# Altium schematic symbol library Battery Reader.SchLib: 98 symbols
Pins are listed as number, name and electrical type; pins without a type are passive.

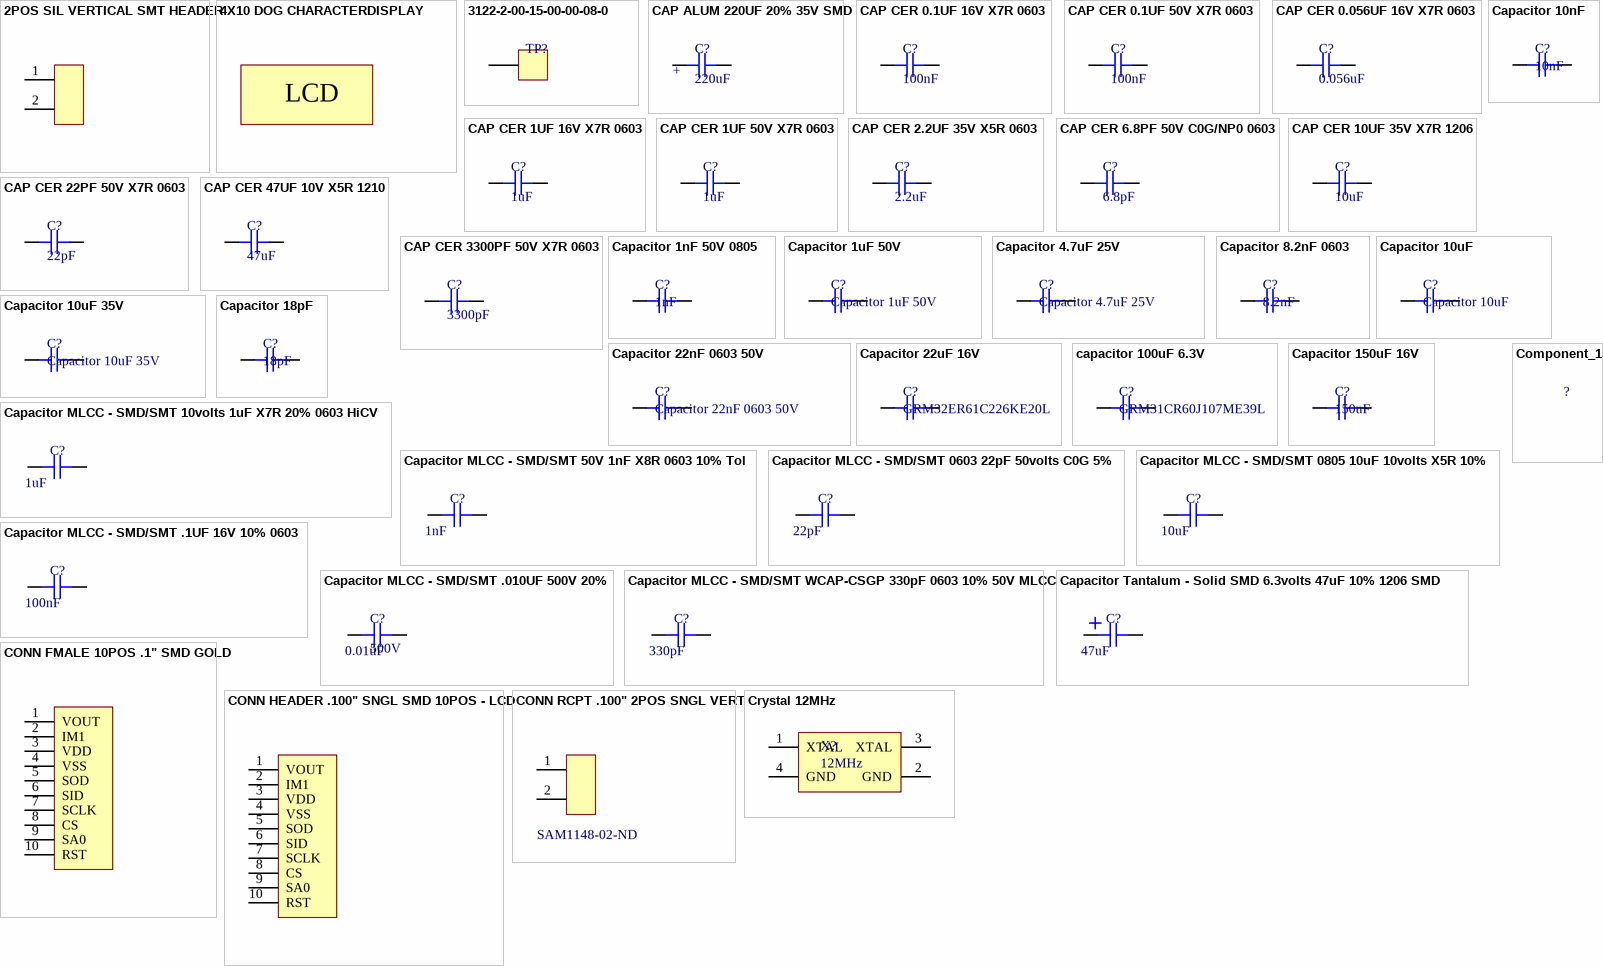
[diagram p0: symbols 2POS SIL VERTICAL SMT HEADER to Crystal 12MHz]

## 2POS SIL VERTICAL SMT HEADER
designator Conn?  Supplier Part Number 1: 952-1913-ND
2POS SIL VERTICAL SMT HEADER; Manufacturer 1: Harwin; Manufacturer Part Number 1: M20-8770246; Description 1: Headers & Wire Housings 02 SIL VERTICAL SMT HEADER TIN; Contact Resistance: 25mR; Max Current Rating: 3A; Number of Positions: 2; Gender: Male; Connector Type: Male Pin; Pitch: 2.54mm; Supplier 1: Digi-Key; Stock 1: 6945; Pricing 1: 1=0.24, 10=0.221, 100=0.1534, 500=0.1298, 1000=0.1062, 5000=0.0944, 10000=0.0856 (USD); Mount: Surface Mount; Case/Package: SIL; Colour: Black; Housing Colour: Black; Housing Material: Nylon; Contact Plating: Tin; Contact Material: Brass; Min Operating Temperature: -40°C; Max Operating Temperature: 105°C; Number of Rows: 1; Package Quantity: 1000; Packaging: Bag; Termination: Solder; Number of Contacts: 2; Orientation: Straight; Length: 5.08mm; Depth: 5.08mm; Contact Mating Length: 0.228inch; Radiation Hardening: No; ComponentLink1URL: https://datasheet.ciiva.com/26899/getdatasheetpartid-503801-26899393.pdf; ComponentLink1Description: https://datasheet.ciiva.com/26899/getdatasheetpartid-503801-26899393.pdf; ComponentLink2URL: https://datasheet.ciiva.com/5160/m20-877-349785-5160402.pdf; ComponentLink2Description: https://datasheet.ciiva.com/5160/m20-877-349785-5160402.pdf; ComponentLink3URL: https://datasheet.ciiva.com/16657/m20-877-16657350.pdf; ComponentLink3Description: https://datasheet.ciiva.com/16657/m20-877-16657350.pdf; ComponentLink4URL: https://datasheet.ciiva.com/6832/m20-877-6832845.pdf; ComponentLink4Description: https://datasheet.ciiva.com/6832/m20-877-6832845.pdf; ComponentLink5URL: https://datasheet.ciiva.com/10151/m20-877-10151407.pdf; ComponentLink5Description: https://datasheet.ciiva.com/10151/m20-877-10151407.pdf
pins: 1, 2

## 4X10 DOG CHARACTERDISPLAY
designator LCD?  Supplier Part Number 1: 790-EADOGS104W-A
4X10 DOG CHARACTERDISPLAY; Manufacturer 1: Electronic Assembly; Manufacturer Part Number 1: EADOGS104W-A; Supplier 1: Mouser; Stock 1: 0; Pricing 1: 1=16.68, 10=15.97, 50=12.42, 100=10.64, 1000=9.58, 10000=9.58 (USD); ComponentLink1URL: http://www.mouser.com/ds/2/127/dogs104e-553061.pdf; ComponentLink1Description: http://www.mouser.com/ds/2/127/dogs104e-553061.pdf
text: LCD

## 3122-2-00-15-00-00-08-0
designator TP?  (value not drawn)
CONN PC PIN CIRC 0.040DIA GOLD; MPN: 3122-2-00-15-00-00-08-0; Manufacturer: Mill-Max; Manufacturer Part Number: 3123-2-00-15-00-00-08-0; SPN: ED1277-ND; Plating: Nickel,Gold; Gender: Male; Insulation: Non-Insulated; Outside Diameter: 1.78mm; Flange Diameter: 0.07inch; Mounting Hole Diameter: 1.09mm; Board Thickness: 0.062inch; Hole Diameter: 0.043inch; Supplier: Digi-Key; Supplier 1: Digi-Key; Stock 1: 3576; Pricing 1: 1=0.34, 10=0.323, 25=0.2768, 50=0.2354, 100=0.2261, 250=0.2031, 500=0.1938, 1000=0.1615, 2500=0.1477 (USD); Mount: Through Hole; Contact Material: Brass; Material: Brass; Contact Plating: Gold; Package Quantity: 500; Packaging: Bulk; Termination: PC Pin; Length: 0.682inch; ComponentLink1URL: http://www.mouser.com/ds/2/273/221M-269451.pdf; ComponentLink1Description: http://www.mouser.com/ds/2/273/221M-269451.pdf; ComponentLink2URL: http://www.mill-max.com/assets/pdfs/metric/221M.pdf; ComponentLink2Description: http://www.mill-max.com/assets/pdfs/metric/221M.pdf; Supplier Part Number 1: ED1182-ND
footprint 3122-2-00-15-00-00-08-0 (Mill-Max 3122-2-00-15-00-00-08-0)
pins: 1

## CAP ALUM 220UF 20% 35V SMD
designator C?, comment 220uF
CAP ALUM 220UF 20% 35V SMD; MPN: UCW1V221MNL1GS; Manufacturer: Nichicon; SPN: 493-9430-1-ND; value: 220uF; Supplier: Digi-Key
footprint PCAP_8x10-ELECT
pins: 1, 2
1 alternate drawing of the same symbol
text: +

## CAP CER 0.1UF 16V X7R 0603
designator C?, comment 100nF
CAP CER 0.1UF 16V X7R 0603; MPN: CL10B104KO8NNNC; Manufacturer: Samsung Electro-Mechanics; value: 100nF; Supplier 1: Digi-Key; Supplier Part Number 1: 1276-1005-1-ND
footprint 0603 Capacitor (Chip Capacitor, Body 1.6x0.8mm, Height 0.55mm, IPC High Density)
pins: 1, 2

## CAP CER 0.1UF 50V X7R 0603
designator C?, comment 100nF
CAP CER 0.1UF 50V X7R 0603; MPN: CL10B104KB8NNNC; Manufacturer: Samsung Electro-Mechanics; value: 100nF; Supplier 1: Digi-Key; Supplier Part Number 1: 1276-1000-1-ND
footprint 0603 Capacitor (Chip Capacitor, Body 1.6x0.8mm, Height 0.55mm, IPC High Density)
pins: 1, 2

## CAP CER 0.056UF 16V X7R 0603
designator C?, comment 0.056uF
CAP CER 0.056UF 16V X7R 0603; MPN: CL10B563KO8NNNC; Manufacturer: Samsung Electro-Mechanics; value: 0.056uF; Supplier 1: Digi-Key; Supplier Part Number 1: 1276-2098-1-ND
footprint 0603 Capacitor (Chip Capacitor, Body 1.6x0.8mm, Height 0.55mm, IPC High Density)
pins: 1, 2

## CAP CER 1UF 16V X7R 0603
designator C?, comment 1uF
CAP CER 1UF 16V X7R 0603; MPN: CL10B105MO8NNWC; Manufacturer: Samsung Electro-Mechanics; value: 1uF; Supplier 1: Digi-Key; Supplier Part Number 1: 1276-6524-1-ND
footprint 0603 Capacitor (Chip Capacitor, Body 1.6x0.8mm, Height 0.55mm, IPC High Density)
pins: 1, 2

## CAP CER 1UF 50V X7R 0603
designator C?, comment 1uF
CAP CER 1UF 50V X7R 0603; MPN: UMK107AB7105KA-T; Manufacturer: Taiyo Yuden; value: 1uF; Supplier 1: Digi-Key; Supplier Part Number 1: 587-3247-1-ND
footprint 0603 Capacitor (Chip Capacitor, Body 1.6x0.8mm, Height 0.55mm, IPC High Density)
pins: 1, 2

## CAP CER 2.2UF 35V X5R 0603
designator C?, comment 2.2uF
CAP CER 2.2UF 35V X5R 0603; MPN: C1608X5R1V225M080AC; Manufacturer: TDK Corporation; value: 2.2uF; Supplier 1: Digi-Key; Supplier Part Number 1: 445-8026-1-ND
footprint 0603 Capacitor (Chip Capacitor, Body 1.6x0.8mm, Height 0.55mm, IPC High Density)
pins: 1, 2

## CAP CER 6.8PF 50V C0G/NP0 0603
designator C?, comment 6.8pF
CAP CER 6.8PF 50V C0G/NP0 0603; MPN: CL10C6R8BB8NNNC; Manufacturer: Samsung; value: 6.8pF; Supplier 1: Digi-Key; Supplier Part Number 1: 1276-2332-1-ND
footprint 0603 Capacitor (Chip Capacitor, Body 1.6x0.8mm, Height 0.55mm, IPC High Density)
pins: 1, 2

## CAP CER 10UF 35V X7R 1206
designator C?, comment 10uF
CAP CER 10UF 35V X7R 1206; MPN: GMK316AB7106KL-TR; Manufacturer: Taiyo Yuden; value: 10uF; Supplier 1: Digi-Key; Supplier Part Number 1: 587-3007-1-ND
footprint 1206 CAPACITOR
pins: 1, 2

## CAP CER 22PF 50V X7R 0603
designator C?, comment 22pF
CAP CER 22PF 50V X7R 0603; MPN: 06035C220JAT2A; Manufacturer: AVX Corporation; value: 22pF; Supplier 1: Digi-Key; Supplier Part Number 1: 478-6204-1-ND
footprint 0603 Capacitor (Chip Capacitor, Body 1.6x0.8mm, Height 0.55mm, IPC High Density)
pins: 1, 2

## CAP CER 47UF 10V X5R 1210
designator C?, comment 47uF
CAP CER 47UF 10V X5R 1210; MPN: GRM32ER61A476KE20L; Manufacturer: Murata; SPN: 490-3887-1-ND; value: 47uF; Supplier: Digi-Key
footprint 1210_Chip2PinSM127P600-8N
pins: 1, 2

## CAP CER 3300PF 50V X7R 0603
designator C?, comment 3300pF
CAP CER 3300PF 50V X7R 0603; MPN: CL10B332KB8NNNC; Manufacturer: Samsung; SPN: 1276-1758-1-ND; value: 3300pF; Supplier: Digi-Key
footprint 0603 Capacitor (Chip Capacitor, Body 1.6x0.8mm, Height 0.55mm, IPC High Density)
pins: 1, 2

## Capacitor 1nF 50V 0805
designator C?, comment 1nF
Multilayer Ceramic Capacitors MLCC - SMD/SMT 0805 1000pF 50volts X7R 10%; MPN: GRM216R71H102KA01D; Manufacturer: Murata Electronics; SPN: 81-GRM40X102K50D; Supplier: Mouser
pins: 1, 2

## Capacitor 1uF 50V
designator C?
Multilayer Ceramic Capacitors MLCC - SMD/SMT 1206 1.0uF 50V X7R 20%; Manufacturer: TDK; MPN: C3216X7R1H105M160AB; SPN: 810-C3216X7R1H105M; Supplier: Mouser
pins: 1, 2

## Capacitor 4.7uF 25V
designator C?
Multilayer Ceramic Capacitors MLCC - SMD/SMT 4.7uF 25Volts 10%; Manufacturer: Murata Electronics; MPN: GRM21BR61E475KA12K; SPN: 81-GRM21BR61E475KA2K; Supplier: Mouser
pins: 1, 2

## Capacitor 8.2nF 0603
designator C?, comment 8.2nF
Multilayer Ceramic Capacitors MLCC - SMD/SMT 0603 8200pF 50volts X7R 10%; MPN: GRM188R71H822KA01D; Manufacturer: Murata Electronics; SPN: 81-GRM39X822K50D; Supplier: Mouser
pins: 1, 2

## Capacitor 10nF
designator C?, comment 10nF
Multilayer CeramicCapacitors MLCC - SMD/SMT 100volts .01uF 10% X7R AUTO ESD; MPN: C0603C103K1RECAUTO; Manufacturer: Kemet; SPN: 80-C0603C103K1REAUTO; Supplier: Mouser
pins: 1, 2

## Capacitor 10uF
designator C?
Multilayer Ceramic Capacitors MLCC - SMD/SMT 0603 10uF 10volts *Derate Voltage/Temp; Manufacturer: Murata Electronics; MPN: GRM188R61A106KE69J; SPN: 81-GRM188R61A106KE9J; Supplier: Mouser
footprint 0603 Capacitor (Chip Capacitor, Body 1.6x0.8mm, Height 0.55mm, IPC High Density)
pins: 1, 2

## Capacitor 10uF 35V
designator C?
Multilayer Ceramic Capacitors MLCC - SMD/SMT 10uF 35V X7R +/-10% 1206 Gen Purp; Manufacturer: Taiyo Yuden; MPN: GMK316AB7106KL-TR; SPN: 963-GMK316AB7106KL; Supplier: Mouser
pins: 1, 2

## Capacitor 18pF
designator C?, comment 18pF
Multilayer Ceramic Capacitors MLCC - SMD/SMT 0603 18pF 50volts C0G 5%; Manufacturer: Vishay / Vitramon; MPN: VJ0603A180JXACW1BC; SPN: 77-VJ0603A180JXACBC; Supplier: Mouser
pins: 1, 2

## Capacitor 22nF 0603 50V
designator C?
Multilayer Ceramic Capacitors MLCC - SMD/SMT WCAP-CSGP 22000pF 0603 10% 50V MLCC; Manufacturer: Wurth Electronics; MPN: 885012206091; SPN: 710-885012206091; Supplier: Mouser
pins: 1, 2

## Capacitor 22uF 16V
designator C?, comment GRM32ER61C226KE20L
Multilayer Ceramic Capacitors MLCC - SMD/SMT 1210 22uF 16volts X5R 10%; Manufacturer: Murata Electronics; SPN: 81-GRM32ER61C226KE20; MPN: GRM32ER61C226KE20L; Supplier: Mouser
pins: 1, 2

## capacitor 100uF 6.3V
designator C?, comment GRM31CR60J107ME39L
Multilayer Ceramic Capacitors MLCC - SMD/SMT 100uF 6.3Volts 20%; Manufacturer: Murata Electronics; SPN: 81-GRM31CR60J107ME9L; MPN: GRM31CR60J107ME39L; Supplier: Mouser
pins: 1, 2

## Capacitor 150uF 16V
designator C?, comment 150uF
Aluminium Electrolytic Capacitors - SMD 16volts 150uF 20%; MPN: UWT1C151MCL1GS; Manufacturer: Nichicon; SPN: 647-UWT1C151MCL1GS; Supplier: Mouser
pins: 1, 2

## Capacitor MLCC - SMD/SMT 10volts 1uF X7R 20% 0603 HiCV
designator C?  value 1uF
Capacitor MLCC - SMD/SMT 10volts 1uF X7R 20% 0603 HiCV; Manufacturer: Taiyo Yuden; MPN: LMK107B7105MAHT; SPN: 963-LMK107B7105MAHT; Supplier: Mouser
footprint 0603 Capacitor (Chip Capacitor, Body 1.6x0.8mm, Height 0.55mm, IPC High Density)
pins: 1, 2

## Capacitor MLCC - SMD/SMT 50V 1nF X8R 0603 10% Tol
designator C?  value 1nF
Capacitor MLCC - SMD/SMT 50V 1nF X8R 0603 10% Tol; Manufacturer: AVX; MPN: 06035F102K4Z4A; SPN: 581-06035F102K4Z4A; Supplier: Mouser
footprint 0603 Capacitor (Chip Capacitor, Body 1.6x0.8mm, Height 0.55mm, IPC High Density)
pins: 1, 2

## Capacitor MLCC - SMD/SMT 0603 22pF 50volts C0G 5%
designator C?, comment value 22pF  (hidden comment: 50V)
Capacitor MLCC - SMD/SMT 0603 22pF 50volts C0G 5%; Manufacturer: Vishay / Vitramon; MPN: VJ0603A220JXACW1BC; SPN: 77-VJ0603A220JXACBC; Supplier: Mouser
footprint 0603 Capacitor (Chip Capacitor, Body 1.6x0.8mm, Height 0.55mm, IPC High Density)
pins: 1, 2

## Capacitor MLCC - SMD/SMT 0805 10uF 10volts X5R 10%
designator C?  value 10uF
Capacitor MLCC - SMD/SMT 0805 10uF 10volts X5R 10%; Manufacturer: Murata Electronics; MPN: GRM21BR61A106KE19L; SPN: 81-GRM21BR61A106KE19; Supplier: Mouser
footprint 0805 Capacitor (Chip Inductor, 2-Leads, Body 2,10x1,25mm, IPC Medium Density)
pins: 1, 2

## Capacitor MLCC - SMD/SMT .1UF 16V 10% 0603
designator C?, comment value 100nF  (hidden comment: ?nF)
Capacitor MLCC - SMD/SMT .1UF 16V 10% 0603; Manufacturer: Yageo; MPN: CC0603KPX7R7BB104; SPN: 603-C0603KPX7R7BB104; Supplier: Mouser
footprint 0603 Capacitor (Chip Capacitor, Body 1.6x0.8mm, Height 0.55mm, IPC High Density)
pins: 1, 2

## Capacitor MLCC - SMD/SMT .010UF 500V 20%
designator C?, comment 500V  value 0.01uF
Capacitor MLCC - SMD/SMT .010UF 500V 20%; MPN: VJ1206Y103MXEAT; SPN: 77-VJ1206Y103MXEAT; Supplier: Mouser; Manufacturer: 77-VJ1206Y103MXEAT
footprint 1206
pins: 1, 2

## Capacitor MLCC - SMD/SMT WCAP-CSGP 330pF 0603 10% 50V MLCC
designator C?  value 330pF
Capacitor MLCC - SMD/SMT WCAP-CSGP 330pF 0603 10% 50V MLCC; Manufacturer: Wurth Electronics; MPN: 885012206080; SPN: 710-885012206080; Supplier: Mouser
footprint 0603 Capacitor (Chip Capacitor, Body 1.6x0.8mm, Height 0.55mm, IPC High Density)
pins: 1, 2

## Capacitor Tantalum - Solid SMD 6.3volts 47uF 10% 1206 SMD
designator C?  value 47uF
Capacitor Tantalum - Solid SMD 6.3volts 47uF 10% 1206 SMD; Manufacturer: AVX; MPN: TAJA476K006SNJV; SPN: 581-TAJA476K006SNJV; Supplier: Mouser
footprint 1206 - TANTALUM (1206)
pins: 1, 2

## Component_1
designator ?

## CONN FMALE 10POS .1" SMD GOLD
designator Conn?  Supplier Part Number 1: S5641-ND
CONN FMALE 10POS .1" SMD GOLD; Manufacturer 1: Sullins; Manufacturer Part Number 1: NPPC101KFXC-RC; Number of Positions: 10; Connector Type: Socket,Header; Pitch: 0.1inch; Supplier 1: Digi-Key; Description 1: CONN FMALE 10POS .1" SMD GOLD; Stock 1: 1156; Pricing 1: 1=1.32, 10=1.195, 100=1.0244, 500=0.8537, 1000=0.7317, 5000=0.7046 (USD); Mount: Surface Mount; Colour: Black; Contact Plating: Gold; Contact Material: Bronze; Housing Colour: Black; Housing Material: Nylon; Package Quantity: 1; Number of Rows: 1; Packaging: Bulk; Termination: Solder; Length: 25.4mm; Height: 7.1mm; Width: 2.5mm; Lead Free: Lead Free; ComponentLink1URL: https://datasheet.ciiva.com/745/npxcxx1kfxx-rc10487-d-745368.pdf; ComponentLink1Description: https://datasheet.ciiva.com/745/npxcxx1kfxx-rc10487-d-745368.pdf
footprint CONN FMALE 10POS .1" SMD GOLD
pins: 1 VOUT, 2 IM1, 3 VDD, 4 VSS, 5 SOD, 6 SID, 7 SCLK, 8 CS, 9 SA0, 10 RST

## CONN HEADER .100" SNGL SMD 10POS - LCD
designator Conn?  Supplier Part Number 1: SAM12267-ND
.025 SQ. TERMINAL STRIPS; Manufacturer 1: Samtec; Manufacturer Part Number 1: TSM-110-01-T-SV; Max Current Rating: 7A; Number of Contacts: 10; Max Voltage Rating (AC): 475V; Gender: Male; Pitch: 2.54mm; Supplier 1: Digi-Key; Stock 1: 742; Pricing 1: 1=0.88, 10=0.775, 100=0.6688, 500=0.5472, 1000=0.4864, 5000=0.4256, 10000=0.4043 (USD); Contact Plating: Nickel,Tin; Contact Material: Bronze; Housing Colour: Black; Housing Material: Polymer; Min Operating Temperature: -55°C; Max Operating Temperature: 105°C; Number of Rows: 1; Packaging: Bulk; Termination: Solder; Orientation: Straight; Length: 25.4mm; Depth: 2.54mm; Radiation Hardening: No; REACH SVHC: No SVHC; Lead Free: Lead Free; ComponentLink1URL: http://components.arrow.com/part/dataview/0323_01324833; ComponentLink1Description: http://components.arrow.com/part/dataview/0323_01324833; ComponentLink2URL: http://www.farnell.com/datasheets/1927672.pdf; ComponentLink2Description: http://www.farnell.com/datasheets/1927672.pdf; ComponentLink3URL: http://www.samtec.com/documents/webfiles/pdf/TSM.PDF; ComponentLink3Description: http://www.samtec.com/documents/webfiles/pdf/TSM.PDF
pins: 1 VOUT, 2 IM1, 3 VDD, 4 VSS, 5 SOD, 6 SID, 7 SCLK, 8 CS, 9 SA0, 10 RST

## CONN RCPT .100" 2POS SNGL VERT
designator Conn?  Supplier Part Number 1: SAM1148-02-ND
CONN RCPT .100" 2POS SNGL VERT; Manufacturer 1: Samtec; Manufacturer Part Number 1: SSM-102-L-SV; Description 1: SAMTEC         SSM-102-L-SV             Board-To-Board Connector, Vertical, SSM Series, 2 Contacts, Receptacle, 2.54 mm, Surface Mount; Max Current Rating: 6.9A; Connector Type: Receptacle,Socket; Number of Positions: 2; Max Voltage Rating (AC): 475V; Gender: Receptacle; Contact Resistance: 10mR; Pitch: 2.54mm; Supplier 1: Digi-Key; Stock 1: 339; Pricing 1: 1=2.18, 10=1.953, 100=1.6081, 500=1.2711, 1000=1.0912, 5000=0.9955, 10000=0.9572 (USD); Mount: Surface Mount; Contact Material: Bronze; Colour: Black; Contact Plating: Nickel,Gold; Housing Colour: Black; Housing Material: Polymer; Min Operating Temperature: -55°C; Max Operating Temperature: 125°C; Number of Rows: 1; Packaging: Bulk; Termination: Solder; Number of Contacts: 2; Orientation: Straight; Current Rating: 6.9A; Voltage Rating: 475V; Voltage Rating (AC): 475V; Length: 5.08mm; Depth: 2.54mm; Lead Pitch: 2.54mm; Radiation Hardening: No; Lead Free: Lead Free; REACH SVHC: No SVHC; ComponentLink1URL: https://datasheet.ciiva.com/25617/0900766b811594ab-25617394.pdf; ComponentLink1Description: https://datasheet.ciiva.com/25617/0900766b811594ab-25617394.pdf; ComponentLink2URL: https://datasheet.ciiva.com/746/ssm-1xx-xxx-xx-xx-xx-x-xx-xx-mkt-746741.pdf; ComponentLink2Description: https://datasheet.ciiva.com/746/ssm-1xx-xxx-xx-xx-xx-x-xx-xx-mkt-746741.pdf; ComponentLink3URL: https://datasheet.ciiva.com/22677/81944-22677814.pdf; ComponentLink3Description: https://datasheet.ciiva.com/22677/81944-22677814.pdf
footprint CON2_1X2_DU_SSM
pins: 1, 2

## Crystal 12MHz
designator X?, comment 12MHz
Crystal 12MHz; Manufacturer: Pericom; MPN: FH1200001; SPN: 729-FH1200001; Supplier: Mouser
footprint FH1200001 12MHz
pins: 1 XTAL, 2 GND, 3 XTAL, 4 GND

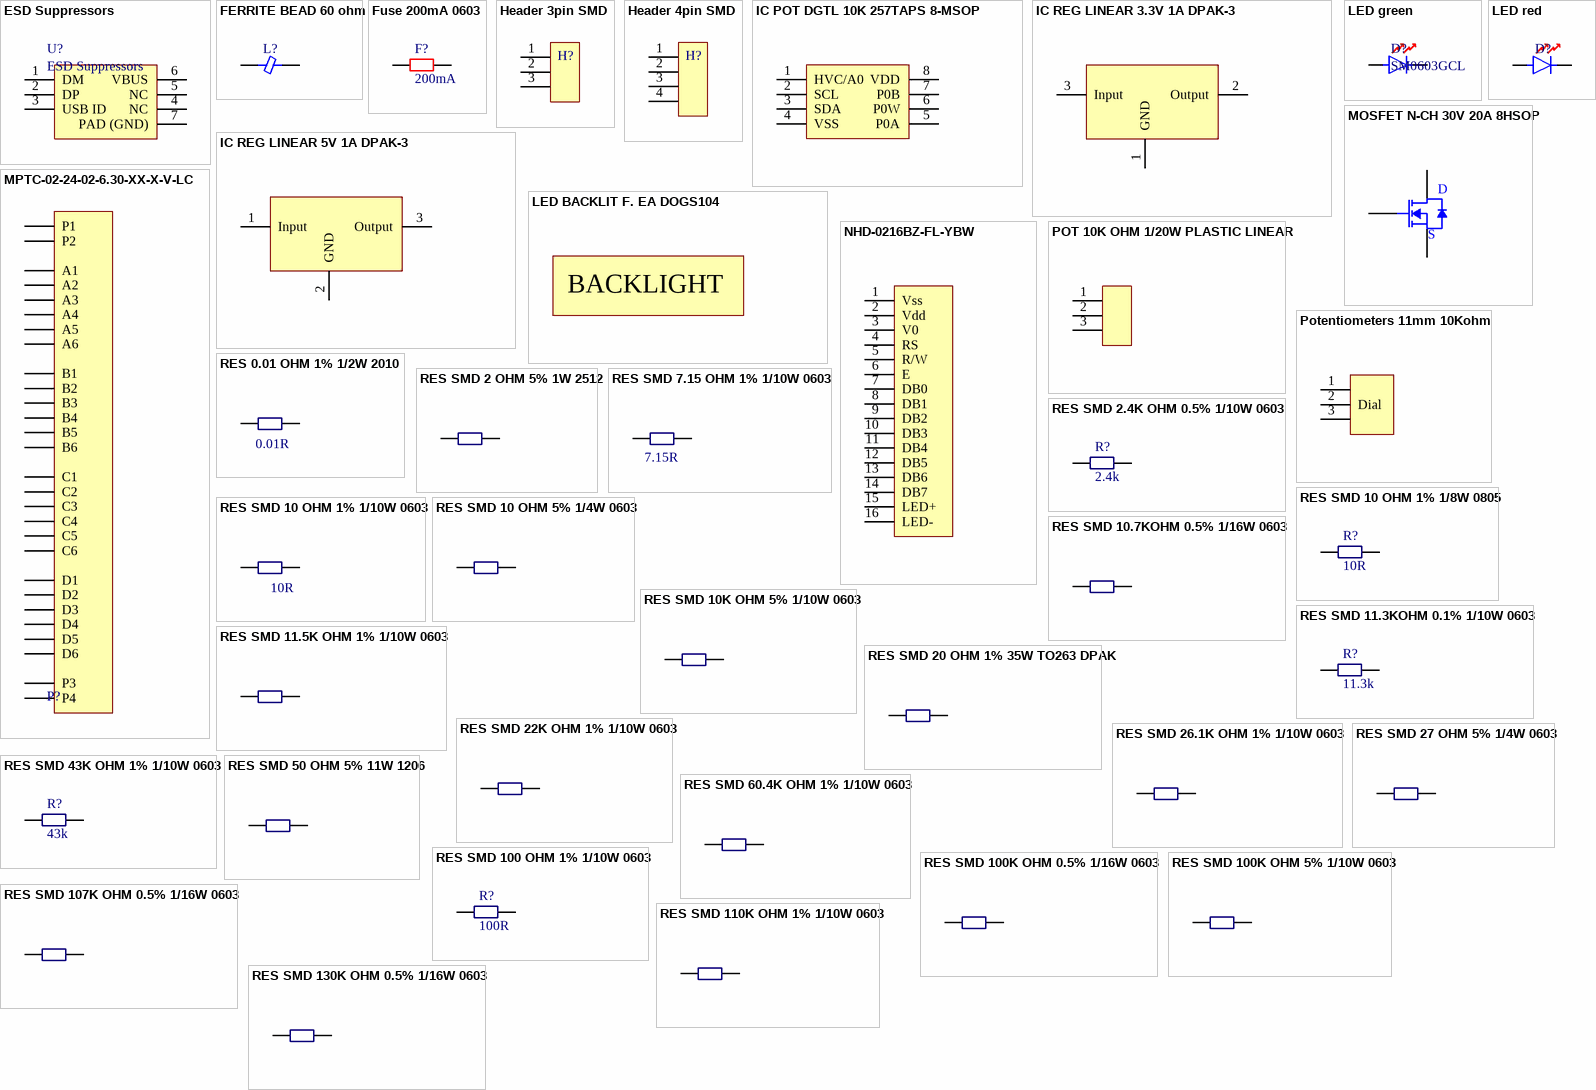
[diagram p1: symbols ESD Suppressors to RES SMD 130K OHM 0.5% 1/16W 0603]

## ESD Suppressors
designator U?
ESD Suppressors RCLAMP0854P 4LINES 8V SLP; Manufacturer: Semtech; MPN: RCLAMP0854P.TCT; SPN: 947-RCLAMP0854P.TCT; Supplier: Mouser
footprint RCLAMP0854P.TCT - SON50P160X65_HS-7N (RCLAMP0854P.TCT - SON, 6-Leads, Body 1,60x1,60mm, Pitch 0,50mm, Thermal Pad 1,18x0,28mm, IPC Medium Density)
pins: 1 DM, 2 DP, 3 USB ID, 4 NC, 5 NC, 6 VBUS, 7 PAD (GND)

## FERRITE BEAD 60 ohm
designator L?, comment 60 OHM  (value not drawn)
FERRITE BEAD 60 OHM 0805 1LN; Manufacturer: Taiyo Yuden; MPN: BKP2125HS600-T; SPN: 587-1932-1-ND; Supplier: Digikey
footprint 0805 Chip Inductor (Chip Inductor, 2-Leads, Body 2,10x1,25mm, IPC Medium Density)
pins: 1 L1, 2 L2

## Fuse 200mA 0603
designator F?, comment 200mA
MPN: F0603G0R20FNTR; Manufacturer: AVX Corporation; SPN: 478-6874-1-ND; Supplier: Digi-Key
footprint 0603 Resistor (Chip Resistor, Body 1.6x0.8mm, IPC High Density)
pins: 1, 2

## Header 3pin SMD
designator H?
3 Positions Header, Breakaway Connector 0.100" (2.54mm) Surface Mount Tin; Manufacturer: Molex, LLC; MPN: 0878980306; SPN: WM9810-ND; Supplier: Digikey
footprint Header 3pos 100 mil SMD
pins: 1, 2, 3

## Header 4pin SMD
designator H?
CONN HEADER 4POS VERT 2.54MM SMD; Manufacturer: Molex, LLC; MPN: 0878980426; SPN: WM8617-ND; Supplier: Digikey
footprint Header 4pos 100 mil SMD
pins: 1, 2, 3, 4

## IC POT DGTL 10K 257TAPS 8-MSOP
designator U?  Supplier Part Number 1: MCP4551-103E/MS-ND
IC POT DGTL 10K 257TAPS 8-MSOP; Manufacturer 1: Microchip; Manufacturer Part Number 1: MCP4551-103E/MS; Description 1: MICROCHIP         MCP4551-103E/MS            Volatile Digital Potentiometer, 10 kohm, Single, I2C, Serial, Linear,  20%, 2.7 V; Tolerance: 20%; Min Supply Voltage: 1.8V; Max Supply Voltage: 5.5V; Interface: I2C,Serial,2-Wire; Resistance: 10kR; Nominal Supply Current: 2.5uA; Number of Circuits: 1; Number of Taps: 257; Memory Type: Volatile; Number of Positions: 256; Temperature Coefficient: 50ppm/°C; Supplier 1: Digi-Key; Stock 1: 1005; Pricing 1: 1=0.93, 25=0.7724, 100=0.7004 (USD); Mount: Surface Mount; Case/Package: MSOP; Number of Pins: 8; Min Operating Temperature: -40°C; Max Operating Temperature: 125°C; Packaging: Rail/Tube; Package Quantity: 100; Taper: Linear; Number of Elements: 1; Length: 3mm; Height: 0.85mm; Width: 3mm; Radiation Hardening: No; REACH SVHC: No SVHC; Lead Free: Lead Free; ComponentLink1URL: https://datasheet.ciiva.com/1146/1789212-1146389.pdf; ComponentLink1Description: https://datasheet.ciiva.com/1146/1789212-1146389.pdf; ComponentLink2URL: https://datasheet.ciiva.com/1146/1789212-1146390.pdf; ComponentLink2Description: https://datasheet.ciiva.com/1146/1789212-1146390.pdf; ComponentLink3URL: https://datasheet.ciiva.com/16365/filehandler-aspxddocname-en538674-16365334.pdf; ComponentLink3Description: https://datasheet.ciiva.com/16365/filehandler-aspxddocname-en538674-16365334.pdf; ComponentLink4URL: https://datasheet.ciiva.com/3045/jp538674-3045879.pdf; ComponentLink4Description: https://datasheet.ciiva.com/3045/jp538674-3045879.pdf; ComponentLink5URL: https://datasheet.ciiva.com/15145/getdatasheetpartid-571538-15145915.pdf; ComponentLink5Description: https://datasheet.ciiva.com/15145/getdatasheetpartid-571538-15145915.pdf; ComponentLink6URL: https://datasheet.ciiva.com/1329/ds-22096a-1329934.pdf; ComponentLink6Description: https://datasheet.ciiva.com/1329/ds-22096a-1329934.pdf; ComponentLink7URL: https://datasheet.ciiva.com/16594/jp538674-16594574.pdf; ComponentLink7Description: https://datasheet.ciiva.com/16594/jp538674-16594574.pdf
pins: 1 HVC/A0, 2 SCL, 3 SDA, 4 VSS, 5 P0A, 6 P0W, 7 P0B, 8 VDD

## IC REG LINEAR 3.3V 1A DPAK-3
designator U?, comment NCP1117DT33T5G
IC REG LINEAR 3.3V 1A DPAK-3; Manufacturer: ON Semiconductor; SPN: NCP1117DT33T5GOSCT-ND; Supplier: Digi-Key; MPN: NCP1117DT33T5G
pins: 1 GND, 2 Output, 3 Input
1 alternate drawing of the same symbol

## IC REG LINEAR 5V 1A DPAK-3
designator U?, comment MC7805BDTRKG
IC REG LINEAR 5V 1A DPAK-3; Manufacturer: ON Semiconductor; SPN: MC7805BDTRKGOSCT-ND; Supplier: Digi-Key; MPN: MC7805BDTRKG
pins: 1 Input, 2 GND, 3 Output

## LED BACKLIT F. EA DOGS104
designator ACC?  Supplier Part Number 1: 1481-1235-ND
LED BACKLIT F. EA DOGS104; Manufacturer 1: Electronic Assembly; Manufacturer Part Number 1: EALED36X28-ERW; Supplier 1: Digi-Key; Stock 1: 9; Pricing 1: 1=14.66, 10=14.04, 25=10.92, 100=9.36, 250=8.892, 500=8.424, 1000=7.956 (USD); ComponentLink1URL: http://www.mouser.com/ds/2/127/dogs104e-553061.pdf; ComponentLink1Description: http://www.mouser.com/ds/2/127/dogs104e-553061.pdf
text: BACKLIGHT

## LED green
designator D?, comment SM0603GCL
Standard LEDs - SMD Green 575 nm Water Clear; Manufacturer: Bivar; SPN: 749-SM0603GCL; Supplier: Mouser; MPN: SM0603GCL
pins: 1, 2

## LED red
designator D?
LED RED 0603 SMD; Manufacturer: Vishay Semiconductors; MPN: TLMS1000-GS08; SPN: TLMS1000-GS08CT-ND; Supplier: Digi-Key
pins: 1, 2

## MOSFET N-CH 30V 20A 8HSOP
designator Q?, comment RS1E200BNTB
MOSFET N-CH 30V 20A 8HSOP; Manufacturer: Rohm Semiconductor; SPN: RS1E200BNTBCT-ND; Supplier: Digi-Key; MPN: RS1E200BNTB
pins: 1 G, 2 S, 3 D

## MPTC-02-24-02-6.30-XX-X-V-LC
designator P?  (value not drawn)
Samtec PowerStrip 30A Signal/Power Combo Connector; MPN: MPTC-02-24-02-6.30-01-L-V; Manufacturer: Samtec
footprint MPTC-02-24-02-6.30-XX-X-V-LC (Samtec Power Strip 30A series MPTC)
pins: A1, A2, A3, A4, A5, A6, B1, B2, B3, B4, B5, B6, C1, C2, C3, C4, C5, C6, D1, D2, D3, D4, D5, D6, P1, P2, P3, P4

## NHD-0216BZ-FL-YBW
designator LCD?
LCD MOD CHAR 2X16 Y/G TRANSFL; Manufacturer: Newhaven Display Intl; SPN: NHD-0216BZ-FL-YBW-ND; Supplier: Digi-Key; MPN: NHD-0216BZ-FL-YBW
pins: 1 Vss, 2 Vdd, 3 V0, 4 RS, 5 R/W, 6 E, 7 DB0, 8 DB1, 9 DB2, 10 DB3, 11 DB4, 12 DB5, 13 DB6, 14 DB7, 15 LED+, 16 LED-

## POT 10K OHM 1/20W PLASTIC LINEAR
designator POT?, comment P120PK-Y25BR10K
POT 10K OHM 1/20W PLASTIC LINEAR; Manufacturer: TT Electronics/BI; SPN: 987-1710-ND; Supplier: Digi-Key; MPN: P120PK-Y25BR10K
pins: 1, 2, 3

## Potentiometers 11mm 10Kohm
designator POT?, comment PRS11S-N20F-103B1
Potentiometers 11mm 10Kohm; Manufacturer: Bourns; SPN: 652-PRS11SN20F103B1; Supplier: Mouser; MPN: PRS11S-N20F-103B1
pins: 1, 2 Dial, 3

## RES 0.01 OHM 1% 1/2W 2010
designator R?, comment WSL2010R0100FEA  value 0.01R
RES 0.01 OHM 1% 1/2W 2010; Manufacturer: Vishay Dale; Supplier Part Number 1: WSLE-.01CT-ND; MPN: WSL2010R0100FEA; Supplier 1: Digi-Key
footprint WSL2010R0100FEA
pins: 1, 2

## RES SMD 2 OHM 5% 1W 2512
designator R?, comment 2R
RES SMD 2 OHM 5% 1W 2512; Manufacturer: Stackpole Electronics Inc.; MPN: RMCF2512JT2R00; Supplier Part Number 1: RMCF2512JT2R00CT-ND; Supplier 1: Digi-Key; Value: 2R
pins: 1, 2

## RES SMD 2.4K OHM 0.5% 1/10W 0603
designator R?, comment 2.4k
RES SMD 2.4K OHM 0.5% 1/10W 0603; MPN: RT0603DRE072K4L; Manufacturer: Yageo; SPN: 311-2519-1-ND; Supplier: Digi-Key; value: 2.4k
footprint 0603 Resistor (Chip Resistor, Body 1.6x0.8mm, IPC High Density)
pins: 1, 2

## RES SMD 7.15 OHM 1% 1/10W 0603
designator R?  Resistance: 7.15R
RES SMD 7.15 OHM 1% 1/10W 0603; Manufacturer 1: Vishay Dale; Manufacturer Part Number 1: CRCW06037R15FKEA; Power Rating: 100mW; Voltage Rating: 75V; Temperature Coefficient: 100ppm/°C; Supplier 1: Digi-Key; Description 1: RES SMD 7.15 OHM 1% 1/10W 0603; Stock 1: 21491; Pricing 1: 1=0.1, 10=0.042, 100=0.017, 1000=0.0076, 2500=0.0066 (USD); Case/Package: 0603; Weight: 7.1E-05oz; Case Code (Metric): 1608; Case Code (Imperial): 0603; Contact Plating: Tin; Min Operating Temperature: -55°C; Max Operating Temperature: 155°C; Tolerance: 1%; Packaging: Tape and Reel; Package Quantity: 5000; Composition: Thick Film; Number of Terminations: 2; Military Standard: Not; Max Power Dissipation: 100mW; Length: 1.55mm; Height: 0.02inch; Width: 0.033inch; Depth: 0.85mm; Lead Free: Lead Free; ComponentLink1URL: https://datasheet.ciiva.com/2466/dcrcwe3-2466755.pdf; ComponentLink1Description: https://datasheet.ciiva.com/2466/dcrcwe3-2466755.pdf; ComponentLink2URL: https://datasheet.ciiva.com/2466/dcrcwe3-2466756.pdf; ComponentLink2Description: https://datasheet.ciiva.com/2466/dcrcwe3-2466756.pdf; ComponentLink3URL: https://datasheet.ciiva.com/2466/dcrcwe3-2466757.pdf; ComponentLink3Description: https://datasheet.ciiva.com/2466/dcrcwe3-2466757.pdf; ComponentLink4URL: https://datasheet.ciiva.com/5562/dcrcwe3-109170-5562726.pdf; ComponentLink4Description: https://datasheet.ciiva.com/5562/dcrcwe3-109170-5562726.pdf; Supplier Part Number 1: 541-7.15HHCT-ND
footprint 0603 Resistor (Chip Resistor, Body 1.6x0.8mm, IPC High Density)
pins: 1, 2

## RES SMD 10 OHM 1% 1/8W 0805
designator R?, comment 10R
RES SMD 10 OHM 1% 1/8W 0805; MPN: RC0805FR-0710RL; Manufacturer: Yageo; SPN: 311-10.0CRCT-ND; Supplier: Digi-Key; value: 10R
footprint RESC2012X06N (Chip Resistor, 2-Leads, Body 2.00x1.25mm, IPC Medium Density)
pins: 1, 2

## RES SMD 10 OHM 1% 1/10W 0603
designator R?  Resistance: 10R
RES SMD 10 OHM 1% 1/10W 0603; Manufacturer 1: Panasonic; Manufacturer Part Number 1: ERJ-3EKF10R0V; Description 1: Res Thick Film 0603 10 Ohm 1% 1/10W ±100ppm/C Molded SMD Punched Carrier T/R; Power Rating: 100mW; Voltage Rating: 75V; Temperature Coefficient: 100ppm/°C; Supplier 1: Digi-Key; Stock 1: 1761949; Pricing 1: 1=0.1, 10=0.063, 100=0.0257, 1000=0.0115, 2500=0.01 (USD); Mount: Surface Mount; Case/Package: 0603; Number of Pins: 2; Case Code (Imperial): 0603; Case Code (Metric): 1608; Contact Plating: Tin; Min Operating Temperature: -55°C; Max Operating Temperature: 155°C; Tolerance: 1%; Packaging: Tape and Reel; Package Quantity: 5000; Composition: Thick Film; Number of Terminations: 2; Termination: SMD/SMT; Military Standard: Not; Max Power Dissipation: 100mW; Voltage Rating (DC): 75V; Working Voltage: 75V; Length: 1.6mm; Height: 0.45mm; Width: 0.8mm; Depth: 0.8mm; Radiation Hardening: No; REACH SVHC: No SVHC; Lead Free: Lead Free; ComponentLink1URL: https://datasheet.ciiva.com/34301/921184-34301770.pdf; ComponentLink1Description: https://datasheet.ciiva.com/34301/921184-34301770.pdf; ComponentLink2URL: https://datasheet.ciiva.com/9194/aoa0000ce2-9194166.pdf; ComponentLink2Description: https://datasheet.ciiva.com/9194/aoa0000ce2-9194166.pdf; ComponentLink3URL: https://datasheet.ciiva.com/7802/426256-7802679.pdf; ComponentLink3Description: https://datasheet.ciiva.com/7802/426256-7802679.pdf; ComponentLink4URL: https://datasheet.ciiva.com/30170/aoa0000ce2-30170135.pdf; ComponentLink4Description: https://datasheet.ciiva.com/30170/aoa0000ce2-30170135.pdf; ComponentLink5URL: https://datasheet.ciiva.com/16199/aoa0000ce2-16199896.pdf; ComponentLink5Description: https://datasheet.ciiva.com/16199/aoa0000ce2-16199896.pdf; ComponentLink6URL: https://datasheet.ciiva.com/16724/70260748-16724989.pdf; ComponentLink6Description: https://datasheet.ciiva.com/16724/70260748-16724989.pdf; ComponentLink7URL: https://datasheet.ciiva.com/7802/aoa0000ce2-7802414.pdf; ComponentLink7Description: https://datasheet.ciiva.com/7802/aoa0000ce2-7802414.pdf; ComponentLink8URL: https://datasheet.ciiva.com/48530/aoa0000ce2-48530990.pdf; ComponentLink8Description: https://datasheet.ciiva.com/48530/aoa0000ce2-48530990.pdf; ComponentLink9URL: https://datasheet.ciiva.com/17211/aoa0000ce2-17211983.pdf; ComponentLink9Description: https://datasheet.ciiva.com/17211/aoa0000ce2-17211983.pdf; ComponentLink10URL: https://datasheet.ciiva.com/43467/1678782-43467583.pdf; ComponentLink10Description: https://datasheet.ciiva.com/43467/1678782-43467583.pdf; Supplier Part Number 1: P10.0HCT-ND
footprint 0603 Resistor (Chip Resistor, Body 1.6x0.8mm, IPC High Density)
pins: 1, 2

## RES SMD 10 OHM 5% 1/4W 0603
designator R?, comment 10R  Supplier Part Number 1: RHM10.0ADCT-ND
RES SMD 10 OHM 5% 1/4W 0603; Manufacturer: Rohm Semiconductor; MPN: ESR03EZPF10R0; Manufacturer 1: Rohm; Description 1: RES 10 OHM 1/4W 1% 0603 SMD; Tolerance: 1%; Temperature Coefficient: 100ppm/°C; SPN: RHM10.0ADCT-ND; Supplier: DigiKey; Value: 10R; Supplier 1: Digi-Key; Manufacturer Part Number 1: ESR03EZPF10R0; Stock 1: 261792; Pricing 1: 1=0.14, 10=0.126, 100=0.0484, 1000=0.0213, 2500=0.0184 (USD); Case/Package: 0603; Min Operating Temperature: -55°C; Max Operating Temperature: 155°C; Resistance: 10R; Length: 1.6mm; Height: 0.45mm; Width: 0.8mm; Lead Free: Lead Free; ComponentLink1URL: http://www.rohm.com/web/global/datasheet/ESR01MZPF/esr-e; ComponentLink1Description: http://www.rohm.com/web/global/datasheet/ESR01MZPF/esr-e
footprint 0603 Resistor (Chip Resistor, Body 1.6x0.8mm, IPC High Density)
pins: 1, 2

## RES SMD 10.7KOHM 0.5% 1/16W 0603
designator R?, comment 10k7
RES SMD 10.7KOHM 0.5% 1/16W 0603; Manufacturer: Susumu; MPN: RR0816P-1072-D-04C; Supplier Part Number 1: RR08P10.7KDCT-ND; Supplier 1: Digi-Key; Value: 10k7
footprint 0603 Resistor (Chip Resistor, Body 1.6x0.8mm, IPC High Density)
pins: 1, 2

## RES SMD 10K OHM 5% 1/10W 0603
designator R?, comment 10k
RES SMD 10K OHM 5% 1/10W 0603; Manufacturer: Yageo; MPN: RC0603JR-0710KL; Supplier Part Number 1: 311-10KGRCT-ND; Supplier 1: Digi-Key; Value: 10k
footprint 0603 Resistor (Chip Resistor, Body 1.6x0.8mm, IPC High Density)
pins: 1, 2

## RES SMD 11.3KOHM 0.1% 1/10W 0603
designator R?, comment 11.3k
RES SMD 11.3KOHM 0.1% 1/10W 0603; MPN: RT0603BRD0711K3L; Manufacturer: Yageo; SPN: YAG4468CT-ND; Supplier: Digi-Key; Value: 11.3k
pins: 1, 2

## RES SMD 11.5K OHM 1% 1/10W 0603
designator R?, comment 11K5
RES SMD 11.5K OHM 1% 1/10W 0603; Manufacturer: Yageo; MPN: RR0816P-1072-D-04C; SPN: 311-11.5KHRCT-ND; Supplier: Digi-Key; Value: 11K5
footprint 0603 Resistor (Chip Resistor, Body 1.6x0.8mm, IPC High Density)
pins: 1, 2

## RES SMD 20 OHM 1% 35W TO263 DPAK
designator R?, comment 20R
RES SMD 20 OHM 1% 35W TO263 DPAK; MPN: PFS35-20RF1; Manufacturer: Riedon; SPN: 696-1282-1-ND; value: 20R; Supplier: Digi-Key; Supplier 1: Digi-Key; Supplier Part Number 1: PFS35-20FCT-ND
pins: 1, 2

## RES SMD 22K OHM 1% 1/10W 0603
designator R?, comment 22K
RES SMD 22K OHM 1% 1/10W 0603; Manufacturer: Yageo; MPN: RC0603FR-0722KL; SPN: 311-22.0KHRCT-ND; Supplier: Digi-Key; Value: 22K
footprint 0603 Resistor (Chip Resistor, Body 1.6x0.8mm, IPC High Density)
pins: 1, 2

## RES SMD 26.1K OHM 1% 1/10W 0603
designator R?, comment 26K1
RES SMD 26.1K OHM 1% 1/10W 0603; Manufacturer: Yageo; MPN: RC0603FR-0726K1L; SPN: 311-26.1KHRCT-ND; Supplier: Digi-Key; Value: 26K1
footprint 0603 Resistor (Chip Resistor, Body 1.6x0.8mm, IPC High Density)
pins: 1, 2

## RES SMD 27 OHM 5% 1/4W 0603
designator R?, comment ESR03EZPJ270  value 27
RES SMD 27 OHM 5% 1/4W 0603; Manufacturer 1: Rohm; Resistance: 27R; Max Power Dissipation: 250mW; Temperature Coefficient: 200ppm/°C; MPN: ESR03EZPJ270; Supplier 1: Digi-Key; Manufacturer Part Number 1: ESR03EZPJ270; Description 1: RES SMD 27 OHM 5% 1/4W 0603; Stock 1: 22229; Pricing 1: 1=0.1, 10=0.087, 100=0.0333, 1000=0.0146, 2500=0.0126 (USD); Case/Package: 0603; Case Code (Metric): 1608; Case Code (Imperial): 0603; Min Operating Temperature: -55°C; Max Operating Temperature: 155°C; Package Quantity: 5000; Packaging: Cut Tape; Tolerance: 5%; Composition: Thick Film; Number of Terminations: 2; Length: 0.063inch; Height: 0.022inch; Width: 0.031inch; ComponentLink1URL: https://datasheet.ciiva.com/14932/esr-14932374.pdf; ComponentLink1Description: https://datasheet.ciiva.com/14932/esr-14932374.pdf; ComponentLink2URL: https://datasheet.ciiva.com/14928/esr-14928807.pdf; ComponentLink2Description: https://datasheet.ciiva.com/14928/esr-14928807.pdf; Supplier Part Number 1: RHM27DCT-ND
footprint 0603 Resistor (Chip Resistor, Body 1.6x0.8mm, IPC High Density)
pins: 1, 2

## RES SMD 43K OHM 1% 1/10W 0603
designator R?, comment 43k
RES SMD 43K OHM 1% 1/10W 0603; MPN: RC0603FR-0743KL; Manufacturer: Yageo; SPN: 311-43.0KHRCT-ND; Supplier: Digi-Key
footprint 0603 Resistor (Chip Resistor, Body 1.6x0.8mm, IPC High Density)
pins: 1, 2

## RES SMD 50 OHM 5% 11W 1206
designator R?, comment RCP1206W50R0JTP
RES SMD 50 OHM 5% 11W 1206; Manufacturer: Vishay; value: 50; SPN: 541-2477-1-ND; Supplier: Digi-Key; MPN: RCP1206W50R0JTP
pins: 1, 2

## RES SMD 60.4K OHM 1% 1/10W 0603
designator R?, comment 60K4
RES SMD 60.4K OHM 1% 1/10W 0603; Manufacturer: Yageo; MPN: RC0603FR-0760K4L; SPN: 311-60.4KHRCT-ND; Supplier: Digi-Key; Value: 60K4
footprint 0603 Resistor (Chip Resistor, Body 1.6x0.8mm, IPC High Density)
pins: 1, 2

## RES SMD 100 OHM 1% 1/10W 0603
designator R?, comment 100R
RES SMD 100 OHM 1% 1/10W 0603; MPN: RC0603FR-07100RL; Manufacturer: Yageo; SPN: 311-100HRCT-ND; Supplier: Digi-Key; value: 100R
footprint 0603 Resistor (Chip Resistor, Body 1.6x0.8mm, IPC High Density)
pins: 1, 2

## RES SMD 100K OHM 0.5% 1/16W 0603
designator R?, comment 100k
RES SMD 100K OHM 0.5% 1/16W 0603; Manufacturer: Susumu; MPN: RR0816P-104-D; Supplier Part Number 1: RR08P100KDCT-ND; Supplier 1: Digi-Key; Value: 100k
footprint 0603 Resistor (Chip Resistor, Body 1.6x0.8mm, IPC High Density)
pins: 1, 2

## RES SMD 100K OHM 5% 1/10W 0603
designator R?, comment 100k
RES SMD 100K OHM 5% 1/10W 0603; Manufacturer: Yageo; MPN: RC0603JR-07100KL; Supplier Part Number 1: 311-100KGRCT-ND; Supplier 1: Digi-Key; Value: 100k
footprint 0603 Resistor (Chip Resistor, Body 1.6x0.8mm, IPC High Density)
pins: 1, 2

## RES SMD 107K OHM 0.5% 1/16W 0603
designator R?, comment 107k
RES SMD 107K OHM 0.5% 1/16W 0603; Manufacturer: Susumu; MPN: RR0816P-1073-D-04D; Supplier Part Number 1: 408-1733-1-ND; Supplier 1: Digi-Key; Value: 107k
footprint 0603 Resistor (Chip Resistor, Body 1.6x0.8mm, IPC High Density)
pins: 1, 2

## RES SMD 110K OHM 1% 1/10W 0603
designator R?, comment 110k
RES SMD 110K OHM 1% 1/10W 0603; Manufacturer: Yageo; MPN: RC0603FR-07110KL; Supplier Part Number 1: 311-110KHRCT-ND; Supplier: Digi-Key; Value: 110k
footprint 0603 Resistor (Chip Resistor, Body 1.6x0.8mm, IPC High Density)
pins: 1, 2

## RES SMD 130K OHM 0.5% 1/16W 0603
designator R?, comment 130k
RES SMD 130K OHM 0.5% 1/16W 0603; Manufacturer: Susumu; MPN: RR0816P-134-D; Supplier Part Number 1: RR08P130KDCT-ND; Supplier 1: Digi-Key; Value: 130k
footprint 0603 Resistor (Chip Resistor, Body 1.6x0.8mm, IPC High Density)
pins: 1, 2

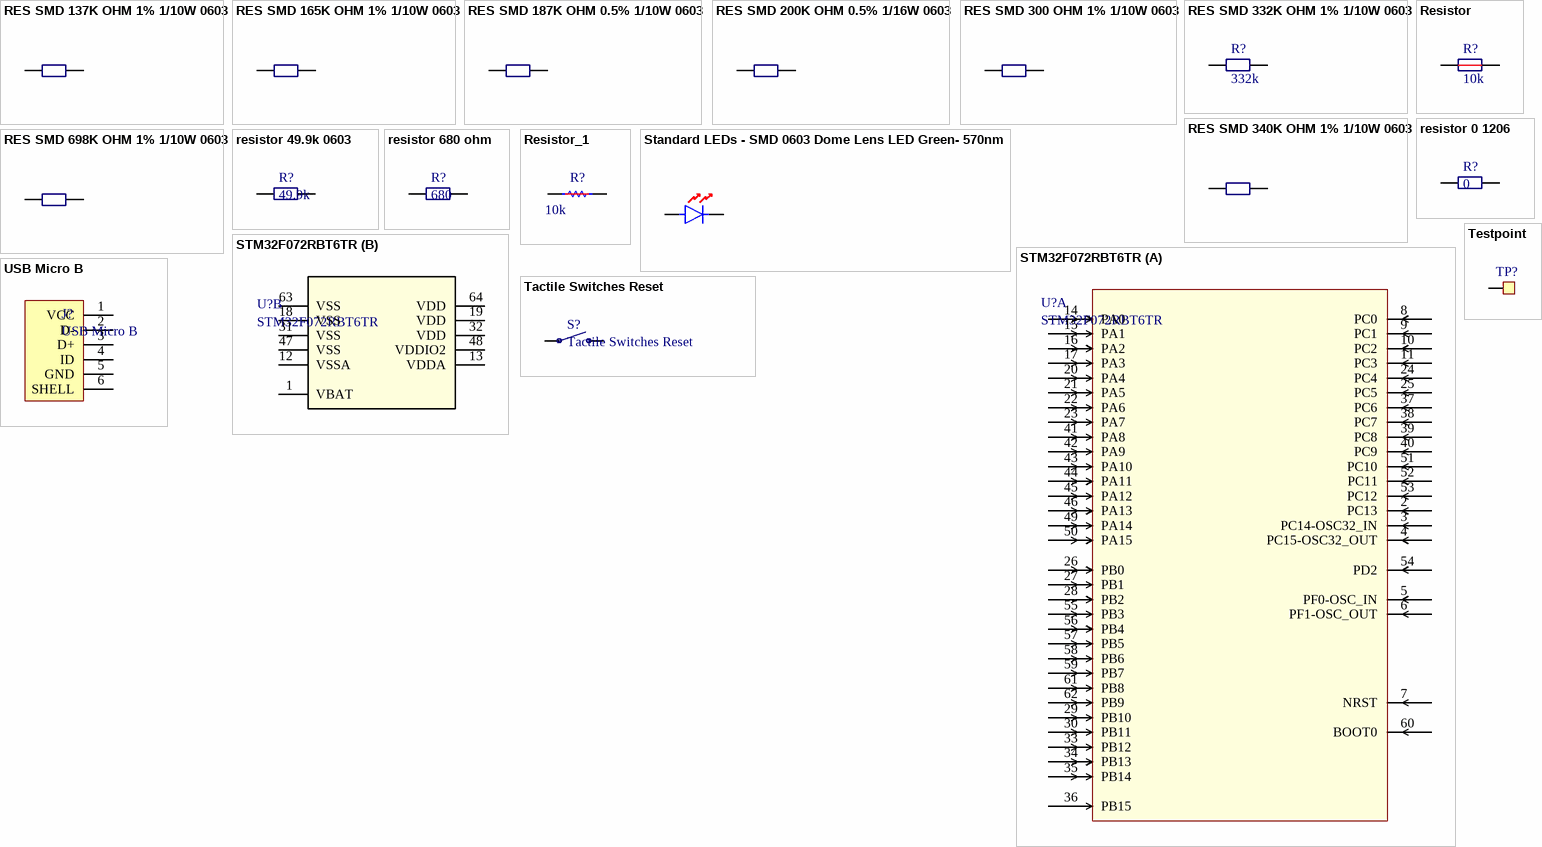
[diagram p2: symbols RES SMD 137K OHM 1% 1/10W 0603 to USB Micro B]

## RES SMD 137K OHM 1% 1/10W 0603
designator R?, comment 137k
RES SMD 137K OHM 1% 1/10W 0603; Manufacturer: Yageo; MPN: RC0603FR-07137KL; Supplier Part Number 1: 311-137KHRCT-ND; Supplier 1: Digi-Key; Value: 137k
footprint 0603 Resistor (Chip Resistor, Body 1.6x0.8mm, IPC High Density)
pins: 1, 2

## RES SMD 165K OHM 1% 1/10W 0603
designator R?, comment 165k
RES SMD 165K OHM 1% 1/10W 0603; Manufacturer: Yageo; MPN: RC0603FR-07165KL; Supplier Part Number 1: 311-165KHRCT-ND; Supplier 1: Digi-Key; Value: 165k
footprint 0603 Resistor (Chip Resistor, Body 1.6x0.8mm, IPC High Density)
pins: 1, 2

## RES SMD 187K OHM 0.5% 1/10W 0603
designator R?, comment 187k
RES SMD 187K OHM 0.5% 1/10W 0603; Manufacturer: Yageo; MPN: RT0603DRE07187KL; Supplier Part Number 1: 311-2449-1-ND; Supplier 1: Digi-Key; Value: 187k
footprint 0603 Resistor (Chip Resistor, Body 1.6x0.8mm, IPC High Density)
pins: 1, 2

## RES SMD 200K OHM 0.5% 1/16W 0603
designator R?, comment 200k
RES SMD 200K OHM 0.5% 1/16W 0603; Manufacturer: Susumu; MPN: RR08P200KDCT-ND; Supplier Part Number 1: RR08P200KDCT-ND; Supplier 1: Digi-Key; Value: 200k
footprint 0603 Resistor (Chip Resistor, Body 1.6x0.8mm, IPC High Density)
pins: 1, 2

## RES SMD 300 OHM 1% 1/10W 0603
designator R?, comment 320
RES SMD 300 OHM 1% 1/10W 0603; Manufacturer: Yageo; MPN: RC0603FR-07300RL; SPN: 311-300HRCT-ND; Supplier: Digi-Key; Value: 320
footprint 0603 Resistor (Chip Resistor, Body 1.6x0.8mm, IPC High Density)
pins: 1, 2

## RES SMD 332K OHM 1% 1/10W 0603
designator R?, comment 332k
RES SMD 332K OHM 1% 1/10W 0603; MPN: RC0603FR-07332KL; Manufacturer: Yageo; SPN: 311-332KHRCT-ND; Supplier: Digi-key; Value: 332k
footprint 0603 Resistor (Chip Resistor, Body 1.6x0.8mm, IPC High Density)
pins: 1, 2

## RES SMD 340K OHM 1% 1/10W 0603
designator R?, comment 340k
RES SMD 340K OHM 1% 1/10W 0603; Manufacturer: Yageo; MPN: RC0603FR-07340KL; Supplier Part Number 1: 311-340KHRCT-ND; Supplier 1: Digi-Key; Value: 340k
footprint 0603 Resistor (Chip Resistor, Body 1.6x0.8mm, IPC High Density)
pins: 1, 2

## RES SMD 698K OHM 1% 1/10W 0603
designator R?, comment 698k
RES SMD 698K OHM 1% 1/10W 0603; Manufacturer: Yageo; MPN: RC0603FR-07698KL; Supplier Part Number 1: 311-698KHRCT-ND; Supplier 1: Digi-Key; Value: 698k
footprint 0603 Resistor (Chip Resistor, Body 1.6x0.8mm, IPC High Density)
pins: 1, 2

## Resistor
designator R?, comment 10k
Resistor default; value: 10k
pins: 1, 2

## resistor 0 1206
designator R?, comment 0
Thick Film Resistors 10 5%; Manufacturer: Yageo; MPN: RC1206JR-070RL; SPN: 311-0.0ERCT-ND; Supplier: Digikey; value: 0
footprint 1206
pins: 1, 2

## resistor 49.9k 0603
designator R?, comment 49.9k
Thick Film Resistors 49.9Kohms 1%; Manufacturer: Panasonic; MPN: ERJ-3EKF4992V; SPN: 667-ERJ-3EKF4992V; Supplier: Mouser; value: 49.9k
footprint 0603 Resistor (Chip Resistor, Body 1.6x0.8mm, IPC High Density)
pins: 1, 2

## resistor 680 ohm
designator R?, comment 680
Thick Film Resistors - SMD 0603 680ohms 5% AEC-Q200; MPN: ERJ-3GEYJ681V; Manufacturer: Panasonic; SPN: 667-ERJ-3GEYJ681V; Supplier: Mouser
pins: 1, 2

## Resistor_1
designator R?, comment value 10k  (hidden comment: ?R)
A default resistor
footprint 0603 Resistor (Chip Resistor, Body 1.6x0.8mm, IPC High Density)
pins: 1, 2

## Standard LEDs - SMD 0603 Dome Lens LED Green- 570nm
designator D?, comment APTD1608LCGCK
Standard LEDs - SMD 0603 Dome Lens LED Green- 570nm; Manufacturer: Kingbright; SPN: 604-APTD1608LCGCK; Supplier: Digi-Key; MPN: APTD1608LCGCK
pins: 1, 2

## STM32F072RBT6TR
designator U?
Vendor: STMicroelectronics; C: Copyright (C) 2016 Accelerated Designs. All rights reserved; SPN: 497-17363-1-ND; Copyright: Copyright (C) 2016 Accelerated Designs. All rights reserved; Manufacturer_Part_Number: STM32F072RBT6TR; RefDes: RefDes; Type: Type; Value: Value; Supplier: Digi-Key
footprint LQFP64-10x10mm
part A pins: 2 PC13, 3 PC14-OSC32_IN, 4 PC15-OSC32_OUT, 5 PF0-OSC_IN, 6 PF1-OSC_OUT, 7 NRST, 8 PC0, 9 PC1, 10 PC2, 11 PC3, 14 PA0, 15 PA1, 16 PA2, 17 PA3, 20 PA4, 21 PA5, 22 PA6, 23 PA7, 24 PC4, 25 PC5, 26 PB0, 27 PB1, 28 PB2, 29 PB10, 30 PB11, 33 PB12, 34 PB13, 35 PB14, 36 PB15, 37 PC6, 38 PC7, 39 PC8, 40 PC9, 41 PA8, 42 PA9, 43 PA10, 44 PA11, 45 PA12, 46 PA13, 49 PA14, 50 PA15, 51 PC10, 52 PC11, 53 PC12, 54 PD2, 55 PB3, 56 PB4, 57 PB5, 58 PB6, 59 PB7, 60 BOOT0, 61 PB8, 62 PB9
part B pins: 1 VBAT (power), 12 VSSA (power), 13 VDDA (power), 18 VSS (power), 19 VDD (power), 31 VSS (power), 32 VDD (power), 47 VSS, 48 VDDIO2, 63 VSS, 64 VDD

## Tactile Switches Reset
designator S?
Tactile Switches 6.0x3.5mm SMD Light Touch Switch; Manufacturer: Panasonic; MPN: EVQ-PE105K; SPN: 667-EVQ-PE105K; Supplier: Mouser
footprint Tact Switch - panasonic
pins: 1, 2

## Testpoint
designator TP?  (value not drawn)  (no BOM)
Testpoint
footprint Testpoint
pins: 1

## USB Micro B
designator J?
USB Connectors 5P MICRO USB TYPE B RECEPTACLE W/ PEGS; Manufacturer: Amphenol FCI; MPN: 10118193-0001LF; SPN: 649-10118193-0001LF; Supplier: Mouser
footprint 10118193-0001LF Micro USB
pins: 1 VCC, 2 D-, 3 D+, 4 ID, 5 GND, 6 SHELL